# Altium schematic symbol library BD139.SchLib: 1 symbol
Pins are listed as number, name and electrical type; pins without a type are passive.

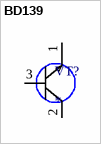
[diagram p0: symbol BD139]

## BD139
designator VT?
footprint BD139_TO-126_BEND
pins: 1 E, 2 C, 3 B